# Altium schematic symbol library LCD Header.SchLib: 1 symbol
Pins are listed as number, name and electrical type; pins without a type are passive.

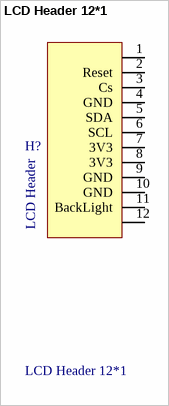
[diagram p0: symbol LCD Header 12*1]

## LCD Header 12*1
designator H?
footprint LCD Header - duplicate
pins: 1, 2 Reset, 3 Cs, 4 GND, 5 SDA, 6 SCL, 7 3V3, 8 3V3, 9 GND, 10 GND, 11 BackLight, 12
text: LCD Header